# EAGLE library part MCP7940N (library parts)
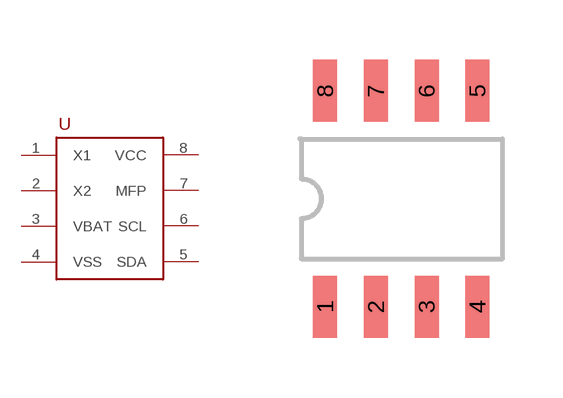
[diagram p1: symbol with the pads of MCP7940N; footprint MCP7940N]

Designator prefix U

## MCP7940N  [MCP7940N]
1  X1
2  X2
3  VBAT
4  VSS
5  SDA
6  SCL
7  MFP
8  VCC

## Footprint MCP7940N (pad centres in mm)
smd 0.6 x 1.55: 1 -1.905,-2.7; 2 -0.635,-2.7; 3 0.635,-2.7; 4 1.905,-2.7; 5 1.905,2.7; 6 0.635,2.7; 7 -0.635,2.7; 8 -1.905,2.7